# Altium schematic symbol library MCP6004_TSSOP.SchLib: 1 symbol
Pins are listed as number, name and electrical type; pins without a type are passive.

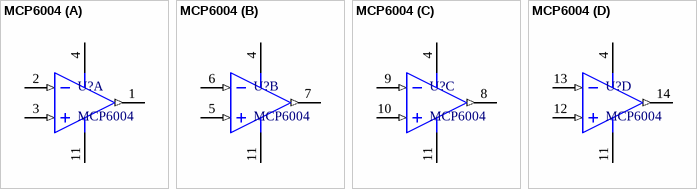
[diagram p0: symbol MCP6004]

## MCP6004
designator U?
MCP6004 TSSOP
footprint TSSOP-ST14_L (TSOP, 14-Leads, Body 5x4.4mm, Pitch 0.65mm, IPC High Density)
footprint TSSOP-ST14_M (TSOP, 14-Leads, Body 5x4.4mm, Pitch 0.65mm, IPC Low Density)
footprint TSSOP-ST14_N
part A pins: 1 VOUTA (out), 2 VINA- (in), 3 VINA+ (in), 4 VDD (power), 11 VSS (power)
part B pins: 4 VDD (power), 5 VINB+ (in), 6 VINB- (in), 7 VOUTB (out), 11 VSS (power)
part C pins: 4 VDD (power), 8 VOUTC (out), 9 VINC- (in), 10 VINC+ (in), 11 VSS (power)
part D pins: 4 VDD (power), 11 VSS (power), 12 VIND+ (in), 13 VIND- (in), 14 VOUTD (out)